# Altium footprint library Synthiam.PcbLib: 481 footprints (part 4 of 31)
Each footprint in its own frame and in the unit in brackets; x right, y up, seen from the top. Pads: shape width x height; smd on the part's side, far side on the other; paste and mask are expansions set on the pad; w line width, h text height; cw(c..) or ccw(c..) is an arc to the next point about the centre after c.
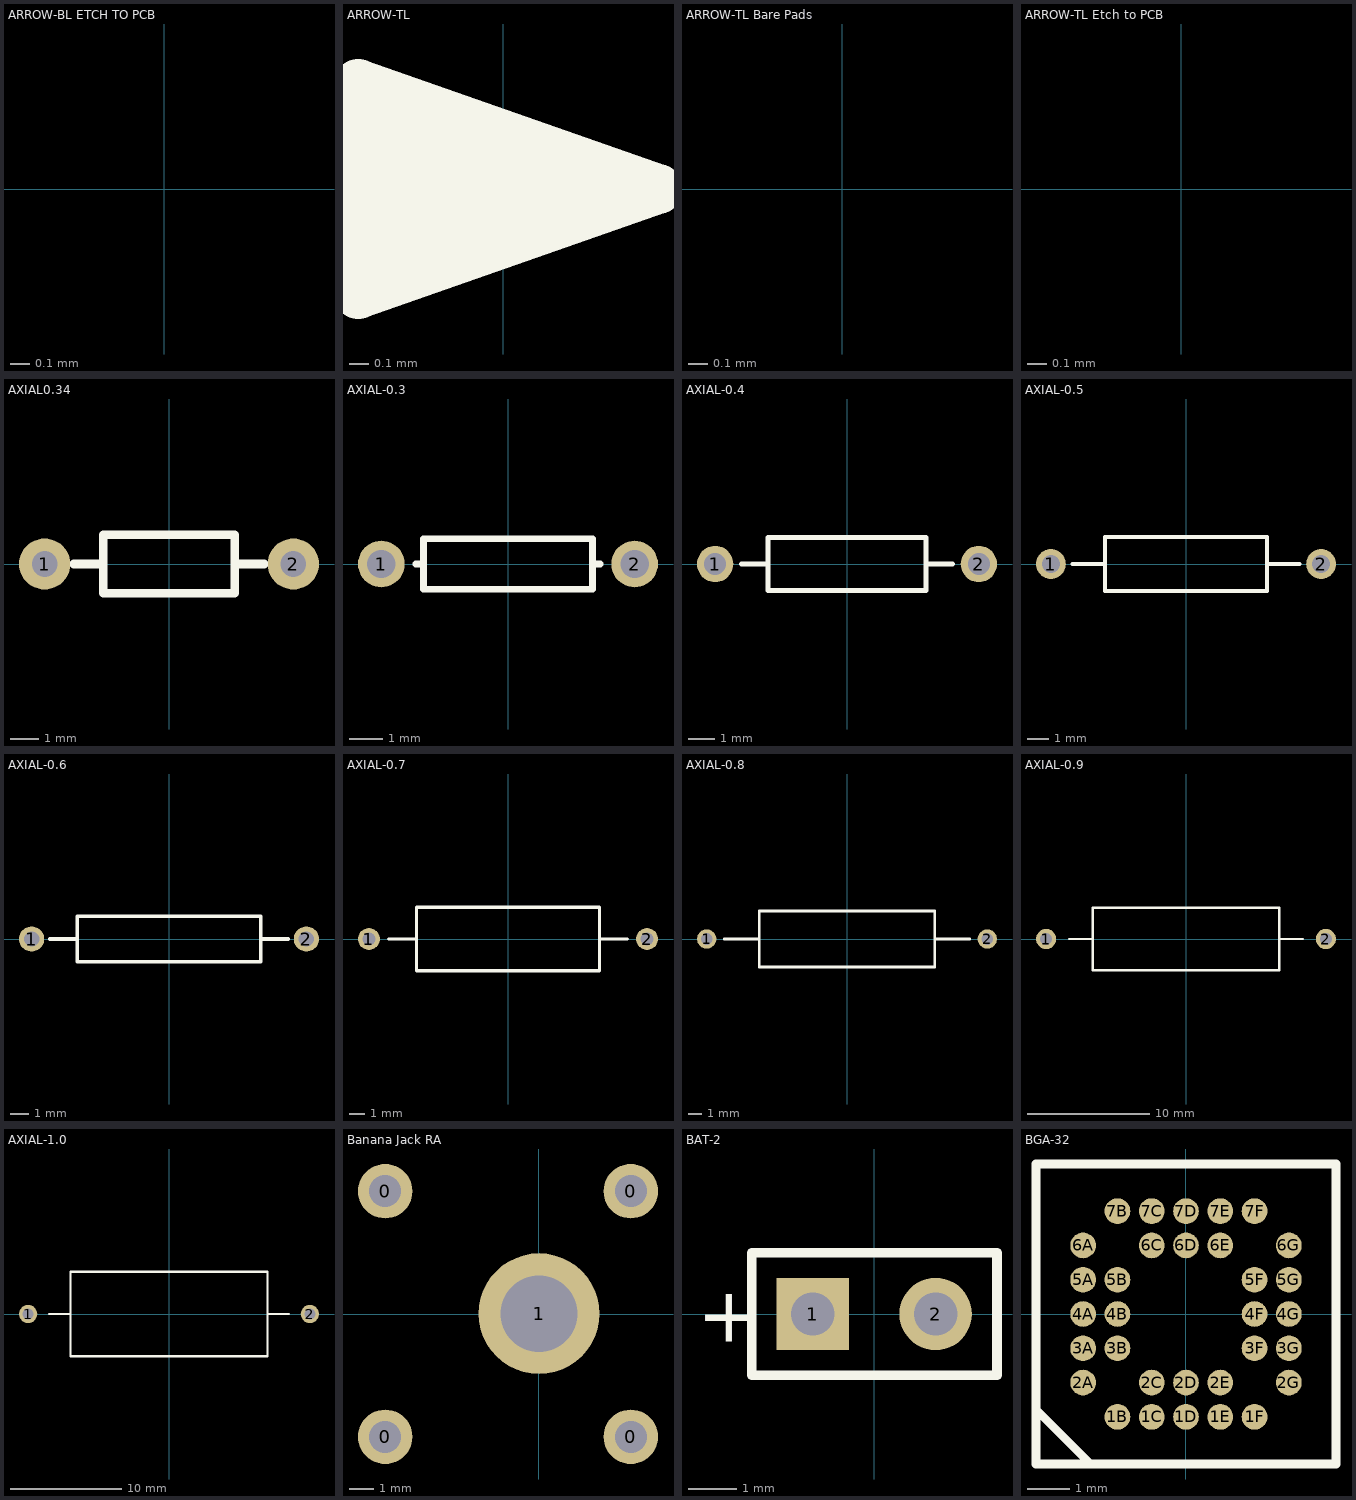
[diagram p3: the footprints below, top view; thin cyan lines are the x and y axes]

## ARROW-BL ETCH TO PCB [mil]
Mid-Layer 3:
  lines w10: -21,11 -21,-11 12,0 -16,8 -16,0 -5,0 ; -29,-21 31,0 -29,21 -29,-21

## ARROW-TL [mil]
Top Overlay:
  lines w10: -21,11 -21,-11 12,0 -16,8 -16,0 -5,0 ; -29,-21 31,0 -29,21 -29,-21

## ARROW-TL Bare Pads [mil]
Mid-Layer 1:
  lines w10: -21,11 -21,-11 12,0 -16,8 -16,0 -5,0 ; -29,-21 -29,21 31,0 -29,-21

## ARROW-TL Etch to PCB [mil]
Mid-Layer 4:
  lines w10: -21,11 -21,-11 12,0 -16,8 -16,0 -5,0 ; -29,-21 31,0 -29,21 -29,-21

## AXIAL0.34 [mil]
pads (2):
  round 70 hole 35: 1(-170,0) 2(170,0)
Top Overlay:
  lines w12: -130,0 -90,0 ; 90,0 130,0 ; -90,-40 -90,40 90,40 90,-40 -90,-40

## AXIAL-0.3 [mm] "Axial Device, Thru-Hole; 2 Leads; 0.3 in Pin Spacing"
height 1.524
pads (2):
  round 1.4 hole 0.85: 1(-3.81,0) 2(3.81,0)
Top Overlay:
  lines w0.2: -2.769,0 -2.54,0 ; 2.769,0 2.54,0 ; 2.54,0 2.54,-0.762 -2.54,-0.762 -2.54,0.762 2.54,0.762 2.54,0

## AXIAL-0.4 [mm] "Axial Device, Thru-Hole; 2 Leads; 0.4 in Pin Spacing"
height 2.032
pads (2):
  round 1.4 hole 0.85: 1(-5.08,0) 2(5.08,0)
Top Overlay:
  lines w0.2: -4.064,0 -3.048,0 ; 3.048,0 4.064,0 ; -3.048,-1.016 3.048,-1.016 3.048,1.016 -3.048,1.016 -3.048,-1.016

## AXIAL-0.5 [mm] "Axial Device, Thru-Hole; 2 Leads; 0.5 in Pin Spacing"
height 2.54
pads (2):
  round 1.4 hole 0.85: 1(-6.35,0) 2(6.35,0)
Top Overlay:
  lines w0.2: -5.334,0 -3.81,0 ; 3.81,0 5.334,0 ; -3.81,-1.27 -3.81,1.27 3.81,1.27 3.81,-1.27 -3.81,-1.27

## AXIAL-0.6 [mm] "Axial Device, Thru-Hole; 2 Leads; 0.6 in Pin Spacing"
height 2.54
pads (2):
  round 1.4 hole 0.85: 1(-7.62,0) 2(7.62,0)
Top Overlay:
  lines w0.2: -6.604,0 -5.08,0 ; 5.08,0 6.604,0 ; -5.08,-1.27 5.08,-1.27 5.08,1.27 -5.08,1.27 -5.08,-1.27

## AXIAL-0.7 [mm] "Axial Device, Thru-Hole; 2 Leads; 0.7 in Pin Spacing"
height 4.064
pads (2):
  round 1.4 hole 0.85: 1(-8.89,0) 2(8.89,0)
Top Overlay:
  lines w0.2: -7.62,0 -5.842,0 ; 5.842,0 7.62,0 ; -5.842,-2.032 -5.842,2.032 5.842,2.032 5.842,-2.032 -5.842,-2.032

## AXIAL-0.8 [mm] "Axial Device, Thru-Hole; 2 Leads; 0.8 in Pin Spacing"
height 4.064
pads (2):
  round 1.4 hole 0.85: 1(-10.16,0) 2(10.16,0)
Top Overlay:
  lines w0.2: -8.89,0 -6.35,0 ; 6.35,0 8.89,0 ; -6.35,-2.032 6.35,-2.032 6.35,2.032 -6.35,2.032 -6.35,-2.032

## AXIAL-0.9 [mm] "Axial Device, Thru-Hole; 2 Leads; 0.9 in Pin Spacing"
height 5.08
pads (2):
  round 1.65 hole 1: 1(-11.43,0) 2(11.43,0)
Top Overlay:
  lines w0.2: -9.525,0 -7.62,0 ; 7.62,0 9.525,0 ; -7.62,-2.54 7.62,-2.54 7.62,2.54 -7.62,2.54 -7.62,-2.54

## AXIAL-1.0 [mm] "Axial Device, Thru-Hole; 2 Leads; 1.0 in Pin Spacing"
height 7.62
pads (2):
  round 1.65 hole 1: 1(-12.7,0) 2(12.7,0)
Top Overlay:
  lines w0.2: -10.795,0 -8.89,0 ; 8.89,0 10.795,0 ; -8.89,-3.81 8.89,-3.81 8.89,3.81 -8.89,3.81 -8.89,-3.81

## Banana Jack RA [mm]
pads (5):
  round 2.25 hole 1.321: 0(-6.36,-5.08) 0(-6.36,5.08) 0(3.8,-5.08) 0(3.8,5.08)
  round 5 hole 3.175: 1(0.005,0.015)

## BAT-2 [mm] "Battery; 2 Leads"
pads (2):
  rect 1.5x1.5 hole 0.9: 1(-1.27,0)
  round 1.5 hole 0.9: 2(1.27,0)
Top Overlay:
  lines w0.2: -2.54,-1.27 2.54,-1.27 2.54,1.27 -2.54,1.27 -2.54,-1.27
  text "+" at -3.67,-0.577 h1.15

## BGA-32 [mm]
pads (32):
  round 0.6 smd: 1B(-1.6,-2.4) 1C(-0.8,-2.4) 1D(0,-2.4) 1E(0.8,-2.4) 1F(1.6,-2.4) 2A(-2.4,-1.6) 2C(-0.8,-1.6) 2D(0,-1.6) 2E(0.8,-1.6) 2G(2.4,-1.6) 3A(-2.4,-0.8) 3B(-1.6,-0.8) 3F(1.6,-0.8) 3G(2.4,-0.8) 4A(-2.4,0) 4B(-1.6,0) 4F(1.6,0) 4G(2.4,0) 5A(-2.4,0.8) 5B(-1.6,0.8) 5F(1.6,0.8) 5G(2.4,0.8) 6A(-2.4,1.6) 6C(-0.8,1.6) 6D(0,1.6) 6E(0.8,1.6) 6G(2.4,1.6) 7B(-1.6,2.4) 7C(-0.8,2.4) 7D(0,2.4) 7E(0.8,2.4) 7F(1.6,2.4)
Top Overlay:
  lines w0.203: -3.5,-2.23 -2.23,-3.5 ; -3.5,-3.5 3.5,-3.5 3.5,3.5 -3.5,3.5 -3.5,-3.5